# EAGLE library part SN74AHCT125 (library SamacSys_Parts)
sn74ahct125n Quadruple Bus Buffer Gates With 3 State Outputs https://www.ti.com/lit/ds/symlink/sn74ahct125.pdf
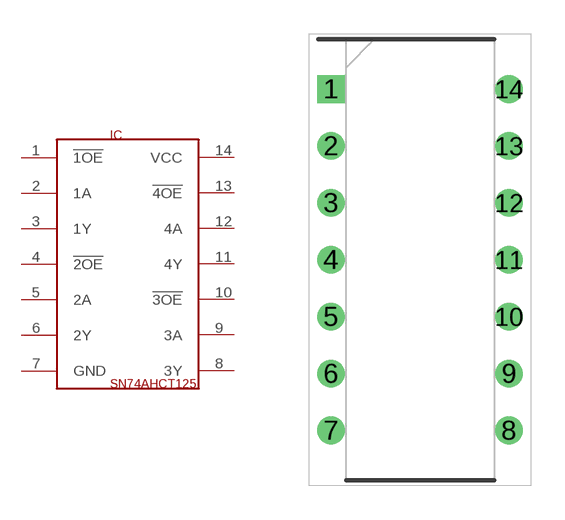
[diagram p3: symbol with the pads of SN74AHCT_DIP794W53P254L1930H508Q14N; footprint SN74AHCT_DIP794W53P254L1930H508Q14N]

Designator prefix IC

## SN74AHCT125 (DESCRIPTION: Hex Schmitt Trigger Inverter SN74HCT14N; HEIGHT: 5.08mm; MANUFACTURER_NAME: Texas Instruments; MANUFACTURER_PART_NUMBER: SN74HCT14N; MOUSER_PART_NUMBER: 595-SN74HCT14N; MOUSER_PRICE-STOCK: https://www.mouser.com/Search/Refine.aspx?Keyword=595-SN74HCT14N; RS_PART_NUMBER: 0526331; RS_PRICE-STOCK: http://uk.rs-online.com/web/p/products/0526331)  [SN74AHCT_DIP794W53P254L1930H508Q14N]
1  !1OE  in
2  1A  in
3  1Y  out
4  !2OE  in
5  2A  in
6  2Y  out
7  GND  in
8  3Y  out
9  3A  in
10  !3OE  in
11  4Y  out
12  4A  in
13  !4OE  in
14  VCC  in

## Footprint SN74AHCT_DIP794W53P254L1930H508Q14N (pad centres in mm)
N (R-PDIP-T14)
drill 0.73 pad 1.13 square: 1 -3.97,7.62
drill 0.73 pad 1.13: 2 -3.97,5.08; 3 -3.97,2.54; 4 -3.97,0; 5 -3.97,-2.54; 6 -3.97,-5.08; 7 -3.97,-7.62; 8 3.97,-7.62; 9 3.97,-5.08; 10 3.97,-2.54; 11 3.97,0; 12 3.97,2.54; 13 3.97,5.08; 14 3.97,7.62